# Altium footprint library B3B.PcbLib: 1 footprints
Each footprint in its own frame and in the unit in brackets; x right, y up, seen from the top. Pads: shape width x height; smd on the part's side, far side on the other; paste and mask are expansions set on the pad; w line width, h text height; cw(c..) or ccw(c..) is an arc to the next point about the centre after c.
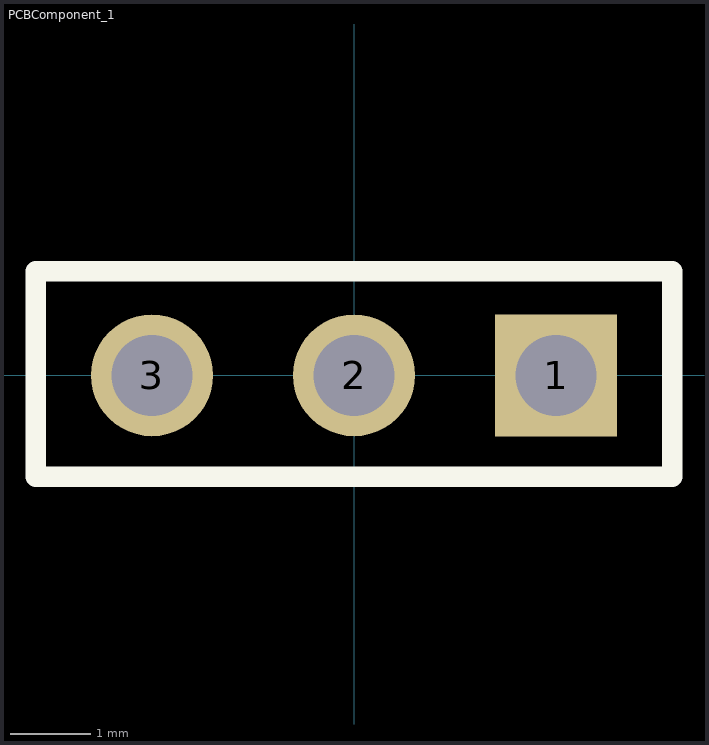
[diagram p0: the footprint, top view; thin cyan lines are the x and y axes]

## PCBComponent_1 [mm]
pads (3):
  rect 1.508x1.508 / inner round 1.508 / far side rect 1.508x1.508 hole 1: 1(2.5,0)
  round 1.508 hole 1: 2(0,0) 3(-2.5,0)
Top Overlay:
  lines w0.254: -3.937,-1.253 -3.937,1.287 3.937,1.287 3.937,-1.253 -3.937,-1.253